# Altium schematic symbol library SCH - POWER - MODULE - RECOM R-78E.SCHLIB: 1 symbol
Pins are listed as number, name and electrical type; pins without a type are passive.

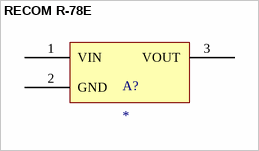
[diagram p0: symbol RECOM R-78E]

## RECOM R-78E
designator A?
pins: 1 VIN, 2 GND, 3 VOUT